# Altium footprint library mainBoard.PcbLib: 28 footprints (part 1 of 2)
Each footprint in its own frame and in the unit in brackets; x right, y up, seen from the top. Pads: shape width x height; smd on the part's side, far side on the other; paste and mask are expansions set on the pad; w line width, h text height; cw(c..) or ccw(c..) is an arc to the next point about the centre after c.
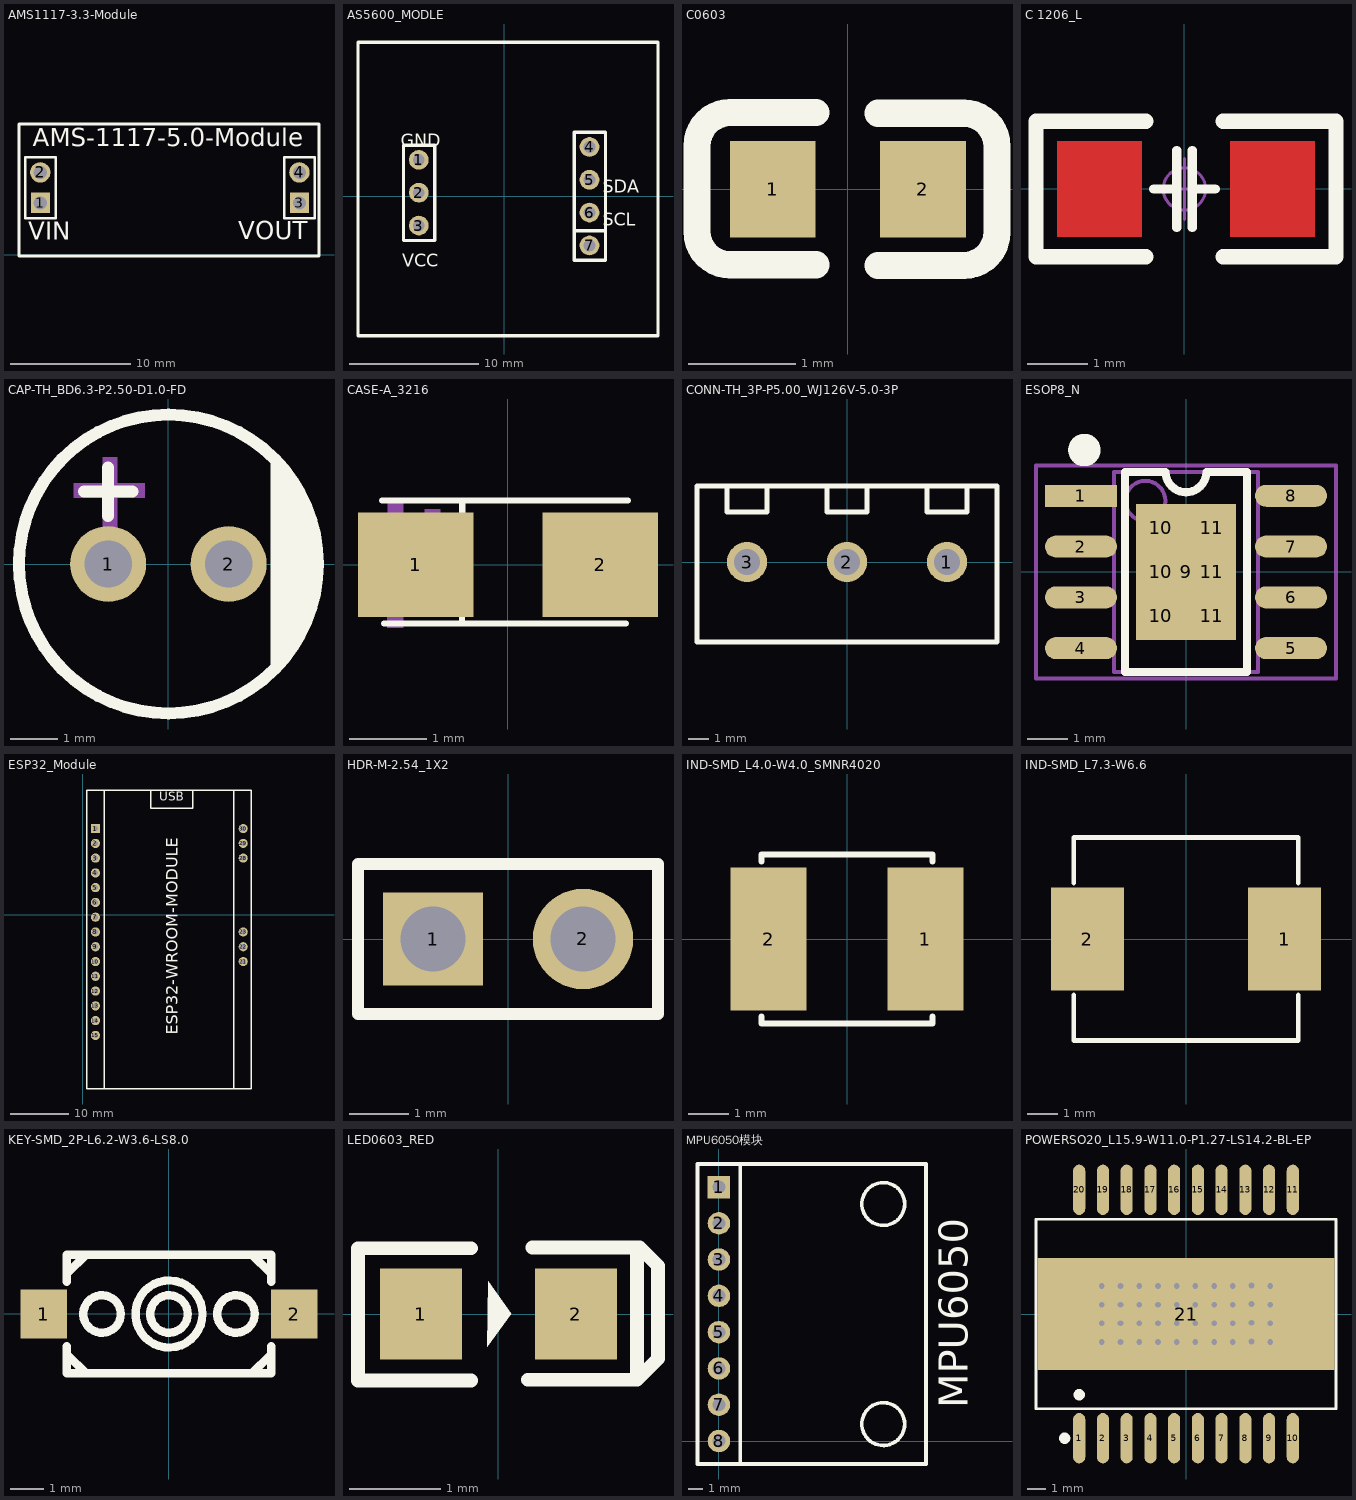
[diagram p0: the footprints below, top view; thin cyan lines are the x and y axes]

## AMS1117-3.3-Module [mil]
pads (4):
  rect 62x66.93 hole 43.31: 1(375,170) 3(1225,170)
  round 66.93 hole 43.31: 2(375,270) 4(1225,270)
Top Overlay:
  lines w7.99: 325,195 325,320 ; 1175,195 1175,320
  lines w8: 325,195 325,120 425,120 425,320 325,320 ; 1175,195 1175,120 1275,120 1275,320 1175,320
  lines w10: 305,-5 305,428.07 1289.25,428.07 1289.25,-5 305,-5
  text "AMS-1117-5.0-Module" at 350,336.11 h100
  text "VIN" at 335.09,30 h100
  text "VOUT" at 1025.09,31.11 h100

## AS5600_MODLE [mil]
pads (7):
  round 60 hole 36: 1(-259.85,110.63) 2(-259.85,10.63) 3(-259.85,-89.37) 4(259.84,150) 5(259.84,50) 6(259.84,-50) 7(259.84,-150)
Top Overlay:
  lines w10: 213.31,-105.04 308.31,-105.04 ; -445,-425 -445,468.7 468.39,468.7 468.39,-425 -445,-425 ; -306.69,-135.04 -211.69,-135.04 -211.69,154.96 -306.69,154.96 -306.69,-135.04 ; 213.31,-195.04 308.31,-195.04 308.31,194.96 213.31,194.96 213.31,-195.04
  text "GND" at -315,150.31 h39.37
  text "VCC" at -310,-214.69 h39.37
  text "SDA" at 300,10.31 h39.37
  text "SCL" at 300,-89.69 h39.37

## C0603 [mm]
pads (2):
  rect 0.8x0.9 smd: 1(-0.7,0) 2(0.7,0)
Top Overlay:
  lines w0.254: -0.296,-0.704 -1.096,-0.704 cw(c-1.096,-0.394) -1.405,-0.394 -1.405,0.406 cw(c-1.096,0.406) -1.096,0.715 -0.296,0.715 ; 0.28,-0.71 1.08,-0.71 ccw(c1.08,-0.4) 1.39,-0.4 1.39,0.4 ccw(c1.08,0.4) 1.08,0.71 0.28,0.71

## C 1206_L [mil]
Top Layer:
  region: -82.62,31 -27.62,31 -27.62,-31 -82.62,-31
  region: 29.59,31 84.59,31 84.59,-31 29.59,-31
Top Overlay:
  lines w6: -20,0 -5,0 ; -5,-25 -5,25 ; 5,-25 5,25 ; 5,0 20,0
  lines w10: -25,-44 -96.46,-44 -96.46,44 -25,44 ; 25,-44 96.46,-44 ; 25,44 96.46,44 ; 98.42,-44 98.43,44
Top Paste:
  region: -82.62,31 -27.62,31 -27.62,-31 -82.62,-31
  region: 29.59,31 84.59,31 84.59,-31 29.59,-31
Top Solder:
  region: -82.62,31 -27.62,31 -27.62,-31 -82.62,-31
  region: 29.59,31 84.59,31 84.59,-31 29.59,-31
Mechanical 1:
  lines w1.97: -19.69,0 19.68,0 ; -0.15,13.78 ccw(c-0.07,0) 0,13.78 ; 0,-19.69 0,19.68

## CAP-TH_BD6.3-P2.50-D1.0-FD [mm]
pads (2):
  round 1.6 hole 1: 1(-1.27,0) 2(1.27,0)
Top Overlay:
  circle w0.254: c0,0 r3.15
  region: 2.159,2.286 2.319,2.142 2.595,1.812 2.822,1.447 2.997,1.054 3.115,0.641 3.175,0.215 3.175,-0.215 3.115,-0.641 2.997,-1.054 2.822,-1.447 2.595,-1.812 2.319,-2.142 2.159,-2.286
  lines w0.254: -1.778,1.524 -0.762,1.524 ; -1.27,1.016 -1.27,2.032
Mechanical 15:
  region: -2,1.7 -0.5,1.7 -0.5,1.4 -2,1.4
  region: -1.381,0.752 -1.381,2.252 -1.081,2.252 -1.081,0.752

## CASE-A_3216 [mil]
pads (2):
  rect 59.05x53.5 smd: 1(-47.24,0) 2(47.25,0)
Top Overlay:
  lines w3.15: -64.55,33 61.45,33 ; -63.55,-30 60.45,-30 ; -23.58,-30 -23.44,33
Mechanical 15:
  region: 59.08,5.13 59.08,-3.13 26.01,-3.13 26.01,5.13
  region: -61.55,32 -53.55,32 -53.55,19 -61.55,19
  region: -53.67,-32 -61.67,-32 -61.67,-19 -53.67,-19
  region: -24.01,5.13 -24.01,-3.13 -57.08,-3.13 -57.08,5.13
  region: -42.55,28.5 -34.55,28.5 -34.55,-26.5 -42.55,-26.5

## CONN-TH_3P-P5.00_WJ126V-5.0-3P [mm]
pads (3):
  round 2 hole 1.3: 1(5,0) 2(-0.001,0) 3(-5,0)
Top Overlay:
  lines w0.254: -6,3.8 -6,2.5 -4,2.5 -4,3.8 ; -1,3.8 -1,2.5 1,2.5 1,3.8 ; 4,3.8 4,2.5 6,2.5 6,3.8 ; -7.5,-4 -7.5,0 -7.5,3.8 -2.5,3.8 7.5,3.8 7.5,0 7.5,-4 -2.5,-4 -7.5,-4

## ESOP8_N [mm]
pads (15):
  rect 1.8x0.55 smd: 1(-2.625,1.905)
  oval 1.8x0.55 smd: 2(-2.625,0.635) 3(-2.625,-0.635) 4(-2.625,-1.905) 5(2.625,-1.905) 6(2.625,-0.635) 7(2.625,0.635) 8(2.625,1.905)
  rect 2.5x3.4 smd: 9(0,0)
  rect 0.9x0.7 smd: 10(-0.625,-1.1) 10(-0.625,0) 10(-0.625,1.1) 11(0.65,-1.1) 11(0.65,0) 11(0.65,1.1)
Top Overlay:
  lines w0.2: -1.524,2.5 -1.524,-2.5 1.524,-2.5 1.524,2.5
  lines w0.203: -1.524,2.5 -0.508,2.5 ccw(c0,2.5) 0,1.992 ccw(c0,2.5) 0.508,2.5 1.524,2.5
  lines w0.5: -2.386,3.041 cw(c-2.54,3.048) -2.385,3.048
Mechanical 1:
  lines w0.05: -0.5,0 0.5,0 ; 0,-0.5 0,0.5 ; 0.35,-0.004 cw(c0,0.003) 0.35,0
  lines w0.1: -0.516,1.773 cw(c-1.016,1.778) -0.516,1.778 ; -3.75,-2.667 -3.75,2.667 3.75,2.667 3.75,-2.667 -3.75,-2.667 ; -1.8,-2.5 1.8,-2.5 1.8,2.5 -1.8,2.5 -1.8,-2.5

## ESP32_Module [mil]
pads (21):
  rect 62x62 hole 35: 1(85,583.15)
  round 62 hole 35: 2(85,483.15) 3(85,383.15) 4(85,283.15) 5(85,183.15) 6(85,83.15) 7(85,-16.85) 8(85,-116.85) 9(85,-216.85) 10(85,-316.85) 11(85,-416.85) 12(85,-516.85) 13(85,-616.85) 14(85,-716.85) 15(85,-816.85) 21(1085,-316.85) 22(1085,-216.85) 23(1085,-116.85) 28(1085,383.15) 29(1085,483.15) 30(1085,583.15)
Top Overlay:
  lines w10: 143.79,-1175 143.79,843.41 ; 460,835 460,720 745,720 745,840 ; 1020,-1173.41 1020,845 ; 1140,-1180 1140,843.41 25,843.41 25,-1180 1140.35,-1180
  text "USB" at 515,751.11 h100
  text "ESP32-WROOM-MODULE" at 642.01,-811.99 h80

## HDR-M-2.54_1X2 [mm]
pads (2):
  rect 1.7x1.575 hole 1.1: 1(-1.27,0)
  round 1.7 hole 1.1: 2(1.27,0)
Top Overlay:
  lines w0.203: -2.54,-1.27 -2.54,1.27 -0.635,1.27 2.54,1.27 2.54,-1.27 -2.54,-1.27

## IND-SMD_L4.0-W4.0_SMNR4020 [mm]
pads (2):
  rect 1.874x3.52 smd: 1(1.928,0) 2(-1.928,0)
Top Overlay:
  lines w0.152: -2.101,-1.912 -2.101,-2.076 2.101,-2.076 2.101,-1.912 ; -2.101,1.912 -2.101,2.076 2.101,2.076 2.101,1.912

## IND-SMD_L7.3-W6.6 [mm]
pads (2):
  rect 2.424x3.42 smd: 1(3.278,0) 2(-3.278,0)
Top Overlay:
  lines w0.152: -3.726,-1.862 -3.726,-3.376 3.726,-3.376 3.726,-1.862 ; -3.726,1.862 -3.726,3.376 3.726,3.376 3.726,1.862

## KEY-SMD_2P-L6.2-W3.6-LS8.0 [mm]
pads (2):
  rect 1.4x1.5 smd: 1(-3.8,0) 2(3.8,0)
Top Overlay:
  circle w0.254: c-2.032,0 r0.568
  circle w0.254: c2.032,0 r0.568
  circle w0.254: c0,0 r1.016
  circle w0.254: c0,0 r0.568
  lines w0.254: -3.1,-0.981 -3.1,-1.8 3.1,-1.8 3.1,-0.981 ; -3.1,0.981 -3.1,1.8 3.1,1.8 3.1,0.981 ; -3.048,-1.27 -2.54,-1.778 ; -3.048,1.27 -2.54,1.778 ; 2.54,-1.778 3.048,-1.27 ; 2.54,1.778 3.048,1.27

## LED0603_RED [mm]
pads (2):
  rect 0.9x1 smd: 1(-0.85,0) 2(0.85,0)
Top Overlay:
  region: -0.11,0.36 -0.12,-0.36 0.14,0
  lines w0.15: -0.3,-0.73 -1.54,-0.73 -1.54,0.72 -0.3,0.72 ; 0.32,-0.72 1.52,-0.72 ; 0.37,0.73 1.52,0.73 ; 1.52,-0.72 1.72,-0.52 1.75,-0.49 1.75,0.53 1.55,0.73 1.52,0.73 ; 1.52,-0.72 1.52,0.73

## MPU6050模块 [mil]
pads (8):
  rect 62x62 hole 35: 1(0,700)
  round 62 hole 35: 2(0,600) 3(0,500) 4(0,400) 5(0,300) 6(0,200) 7(0,100) 8(0,0)
Top Overlay:
  circle w10: c452.76,46.64 r59.06
  circle w10: c452.76,653.17 r59.06
  lines w10: 58.79,-63.36 58.79,763.41 ; -59.32,-63.36 -59.32,763.41 570.6,763.41 570.6,-63.36 -59.32,-63.36
  text "MPU6050" at 685,90 h80

## POWERSO20_L15.9-W11.0-P1.27-LS14.2-BL-EP [mm]
pads (21):
  oval 0.651x2.695 smd: 1(-5.715,-6.648) 2(-4.445,-6.648) 3(-3.175,-6.648) 4(-1.905,-6.648) 5(-0.635,-6.648) 6(0.635,-6.648) 7(1.905,-6.648) 8(3.175,-6.648) 9(4.445,-6.648) 10(5.715,-6.648) 11(5.715,6.648) 12(4.445,6.648) 13(3.175,6.648) 14(1.905,6.648) 15(0.635,6.648) 16(-0.635,6.648) 17(-1.905,6.648) 18(-3.175,6.648) 19(-4.445,6.648) 20(-5.715,6.648)
  rect 15.9x6 smd: 21(0,0)
via 4.5,-1.5 diameter 0.61 hole 0.305
via 3.5,-1.47 diameter 0.61 hole 0.305
via 2.5,-1.5 diameter 0.61 hole 0.305
via 1.515,-1.5 diameter 0.61 hole 0.305
via 0.5,-1.5 diameter 0.61 hole 0.305
via -0.5,-1.5 diameter 0.61 hole 0.305
via -1.5,-1.5 diameter 0.61 hole 0.305
via -2.5,-1.5 diameter 0.61 hole 0.305
via -3.5,-1.5 diameter 0.61 hole 0.305
via -4.5,-1.5 diameter 0.61 hole 0.305
via 4.5,-0.5 diameter 0.61 hole 0.305
via 3.5,-0.47 diameter 0.61 hole 0.305
via 2.5,-0.5 diameter 0.61 hole 0.305
via 1.515,-0.5 diameter 0.61 hole 0.305
via 0.5,-0.5 diameter 0.61 hole 0.305
via -0.5,-0.5 diameter 0.61 hole 0.305
via -1.5,-0.5 diameter 0.61 hole 0.305
via -2.5,-0.5 diameter 0.61 hole 0.305
via -3.5,-0.5 diameter 0.61 hole 0.305
via -4.5,-0.5 diameter 0.61 hole 0.305
via 4.5,0.5 diameter 0.61 hole 0.305
via 3.5,0.53 diameter 0.61 hole 0.305
via 2.5,0.5 diameter 0.61 hole 0.305
via 1.515,0.5 diameter 0.61 hole 0.305
via 0.5,0.5 diameter 0.61 hole 0.305
via -0.5,0.5 diameter 0.61 hole 0.305
via -1.5,0.5 diameter 0.61 hole 0.305
via -2.5,0.5 diameter 0.61 hole 0.305
via -3.5,0.5 diameter 0.61 hole 0.305
via -4.5,0.5 diameter 0.61 hole 0.305
via 4.5,1.5 diameter 0.61 hole 0.305
via 3.5,1.53 diameter 0.61 hole 0.305
via 2.5,1.5 diameter 0.61 hole 0.305
via 1.515,1.5 diameter 0.61 hole 0.305
via 0.5,1.5 diameter 0.61 hole 0.305
via -0.5,1.5 diameter 0.61 hole 0.305
via -1.5,1.5 diameter 0.61 hole 0.305
via -2.5,1.5 diameter 0.61 hole 0.305
via -3.5,1.5 diameter 0.61 hole 0.305
via -4.5,1.5 diameter 0.61 hole 0.305
Top Overlay:
  circle w0.3: c-5.715,-4.319 r0.15
  circle w0.3: c-6.493,-6.648 r0.15
  lines w0.152: -8.026,-5.071 -8.026,5.071 8.026,5.071 8.026,-5.071 -8.026,-5.071
Mechanical 15:
  circle w0.3: c-5.715,-7.5 r0.15